# Altium schematic symbol library 2829.SchLib: 1 symbol
Pins are listed as number, name and electrical type; pins without a type are passive.

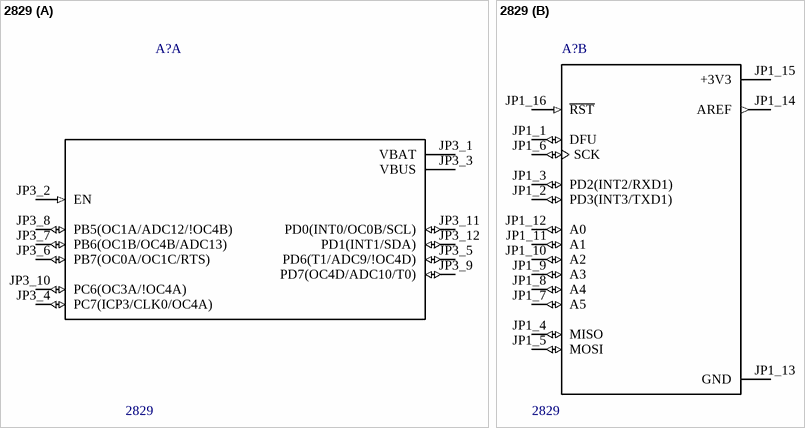
[diagram p0: symbol 2829]

## 2829
designator A?
Adafruit Feather 32u4 Bluefruit LE; MF: Adafruit Industries; Package: None; MP: 2829; SnapEDA_Link: https://www.snapeda.com/parts/2829/Adafruit%20Industries%20LLC/view-part/?ref=snap; Price: None; Availability: Unavailable; Value: *
footprint *ADAFRUIT_2829_2829(Primary)
part A pins: JP3_1 VBAT (power), JP3_2 EN (in), JP3_3 VBUS (power), JP3_4 PC7(ICP3/CLK0/OC4A) (io), JP3_5 PD6(T1/ADC9/!OC4D) (io), JP3_6 PB7(OC0A/OC1C/RTS) (io), JP3_7 PB6(OC1B/OC4B/ADC13) (io), JP3_8 PB5(OC1A/ADC12/!OC4B) (io), JP3_9 PD7(OC4D/ADC10/T0) (io), JP3_10 PC6(OC3A/!OC4A) (io), JP3_11 PD0(INT0/OC0B/SCL) (io), JP3_12 PD1(INT1/SDA) (io)
part B pins: JP1_1 DFU (io), JP1_2 PD3(INT3/TXD1) (io), JP1_3 PD2(INT2/RXD1) (io), JP1_4 MISO (io), JP1_5 MOSI (io), JP1_6 SCK (io), JP1_7 A5 (io), JP1_8 A4 (io), JP1_9 A3 (io), JP1_10 A2 (io), JP1_11 A1 (io), JP1_12 A0 (io), JP1_13 GND (power), JP1_14 AREF (out), JP1_15 +3V3 (power), JP1_16 ~{RST} (in)